# EAGLE library part TPS61252 (library Gritsbot_Library)
Texas Instrument 1.5-A Boost Converter With Adjustable Input Current Limit. (2.7 - 6V input range to 0 - 6.5V output)
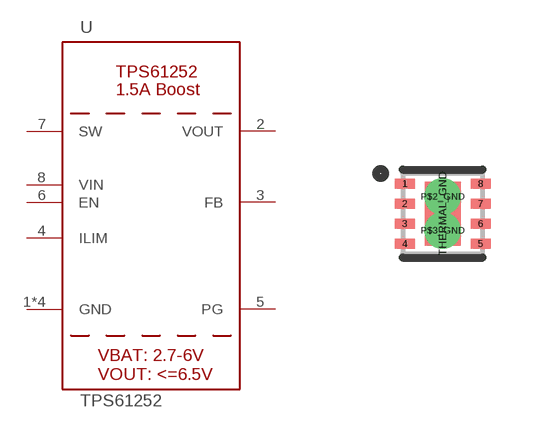
[diagram p0: symbol with the pads of TPS61252; footprint TPS61252]

Designator prefix -

## TPS61252SMD  [TPS61252]
1  GND
2  VOUT
3  FB
4  ILIM
5  PG
6  EN
7  SW
8  VIN
P$2_GND  GND
P$3_GND  GND
THERMAL_GND  GND

## Footprint TPS61252 (pad centres in mm)
Texas Instrument 1.5-A Boost Converter With Adjustable Input Current Limit. (2.7 - 6V input range to 0 - 6.5V output)
smd 0.5 x 0.25: 1 -0.95,0.75; 2 -0.95,0.25; 3 -0.95,-0.25; 4 -0.95,-0.75; 5 0.95,-0.75; 6 0.95,-0.25; 7 0.95,0.25; 8 0.95,0.75
drill 0.4 pad 0.457: P$2_GND 0,0.423; P$3_GND 0,-0.423
smd 0.9 x 1.6: THERMAL_GND 0,0